# EAGLE library part 7301 (library S-Toggle)
ON - none - ON 7301SYCQE [C&K,7301SYCQE] SWITCH TOGGLE 3PDT 5A 120V
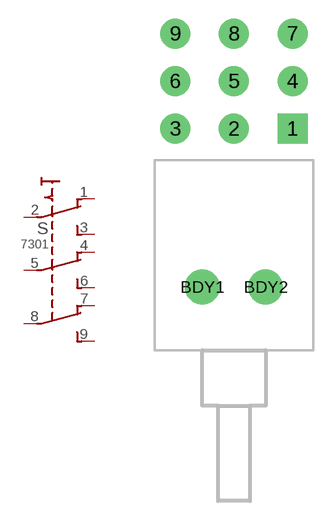
[diagram p1: symbol with the pads of 7301; footprint 7301]

Designator prefix S

## 7301  [7301]
1  NC1  pas
2  COM1  pas
3  NO1  pas
4  NC2  pas
5  COM2  pas
6  NO2  pas
7  NC3  pas
8  COM3  pas
9  NO3  pas

## Footprint 7301 (pad centres in mm)
drill 1.6 square: 1 4.7,0
drill 1.6: 2 0,0; 3 -4.7,0; 4 4.7,3.81; 5 0,3.81; 6 -4.7,3.81; 7 4.7,7.62; 8 0,7.62; 9 -4.7,7.62
drill 1.85: BDY1 -2.54,-12.7; BDY2 2.54,-12.7